# Altium footprint library pedals-submini tubes.PCBLIB: 4 footprints
Each footprint in its own frame and in the unit in brackets; x right, y up, seen from the top. Pads: shape width x height; smd on the part's side, far side on the other; paste and mask are expansions set on the pad; w line width, h text height; cw(c..) or ccw(c..) is an arc to the next point about the centre after c.
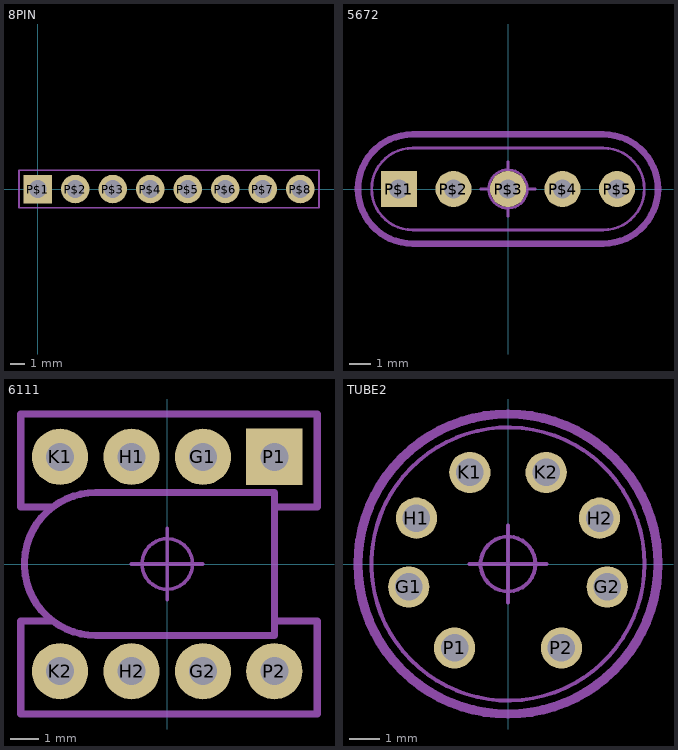
[diagram p0: the footprints below, top view; thin cyan lines are the x and y axes]

## 8PIN [mil]
pads (8):
  rect 76x76 hole 47.24: P$1(0,0)
  round 76 hole 47.24: P$2(100,0) P$3(200,0) P$4(300,0) P$5(400,0) P$6(500,0) P$7(600,0) P$8(700,0)
Mechanical 2:
  lines w5: -50,-50 750,-50 750,50 -50,50 -50,-50

## 5672 [mil]
pads (5):
  rect 66x66 hole 35.43: P$1(-200,0)
  round 66 hole 35.43: P$2(-100,0) P$3(0,0) P$4(100,0) P$5(200,0)
Mechanical 2:
  circle w5: c0,0 r35.36
  lines w5: -50,0 50,0 ; 0,-50 0,50 ; -250,0 ccw(c-175,0) -175,-75 175,-75 ccw(c175,0) 250,0 ccw(c175,0) 175,75 0,75 -175,75 ccw(c-175,0) -250,0
  lines w12: -275,0 ccw(c-175,0) -175,-100 175,-100 ccw(c175,0) 275,0 ccw(c175,0) 175,100 0,100 -175,100 ccw(c-175,0) -275,0
Mechanical 3:
  circle w5: c0,0 r35.36
  lines w5: -50,0 50,0 ; 0,-50 0,50 ; -250,0 ccw(c-175,0) -175,-75 175,-75 ccw(c175,0) 250,0 ccw(c175,0) 175,75 0,75 -175,75 ccw(c-175,0) -250,0
  lines w12: -275,0 cw(c-175,0) -175,100 0,100 175,100 cw(c175,0) 275,0 cw(c175,0) 175,-100 -175,-100 cw(c-175,0) -275,0

## 6111 [mm]
pads (8):
  round 2 hole 1: G1(1.27,3.81) G2(1.27,-3.81) H1(-1.27,3.81) H2(-1.27,-3.81) K1(-3.81,3.81) K2(-3.81,-3.81) P2(3.81,-3.81)
  rect 2x2 hole 1: P1(3.81,3.81)
Mechanical 2:
  lines w0.254: -4.064,-2.032 ccw(c-2.54,0) -2.54,-2.54 3.81,-2.54 3.81,-2.032 ; -4.064,-2.032 cw(c-2.54,0) -4.064,2.032 ; -4.064,-2.032 -5.207,-2.032 -5.207,-5.334 5.334,-5.334 5.334,-2.032 3.81,-2.032 ; -4.064,2.032 cw(c-2.54,0) -2.54,2.54 3.81,2.54 3.81,2.032 ; -4.064,2.032 -5.207,2.032 -5.207,5.334 5.334,5.334 5.334,2.032 3.81,2.032 ; 3.81,-2.032 3.81,2.032
Mechanical 3:
  circle w0.127: c0,0 r0.898
  lines w0.127: -1.27,0 1.27,0 ; 0,-1.27 0,1.27
  lines w0.254: -4.064,-2.032 ccw(c-2.54,0) -2.54,-2.54 3.81,-2.54 3.81,-2.032 ; -4.064,-2.032 cw(c-2.54,0) -4.064,2.032 ; -4.064,-2.032 -5.207,-2.032 -5.207,-5.334 5.334,-5.334 5.334,-2.032 3.81,-2.032 ; -4.064,2.032 cw(c-2.54,0) -2.54,2.54 3.81,2.54 3.81,2.032 ; -4.064,2.032 -5.207,2.032 -5.207,5.334 5.334,5.334 5.334,2.032 3.81,2.032 ; 3.81,-2.032 3.81,2.032

## TUBE2 [mm]
pads (8):
  round 1.35 hole 0.9: G1(-3.25,-0.75) G2(3.25,-0.75) H1(-3,1.5) H2(3,1.5) K1(-1.25,3) K2(1.25,3) P1(-1.75,-2.75) P2(1.75,-2.75)
Mechanical 2:
  circle w0.127: c0,0 r4.472
  circle w0.305: c0,0 r4.912
  circle w0.127: c0,0 r0.898
  circle w0.127: c0,0 r4.472
  lines w0.127: -1.27,0 1.27,0 ; 0,-1.27 0,1.27
Mechanical 3:
  circle w0.127: c0,0 r0.898
  circle w0.127: c0,0 r4.472
  lines w0.127: -0.635,0 0.635,0 ; 0,-0.635 0,0.635